# Altium schematic symbol library UA78M33CDCY.SchLib: 1 symbol
Pins are listed as number, name and electrical type; pins without a type are passive.

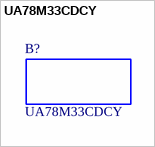
[diagram p0: symbol UA78M33CDCY]

## UA78M33CDCY
designator B?
UA78M33CDCY, Linear Voltage Regulator, 0.5A 3.3 V, 4-Pin SOT-223; Manufacturer_Name: Texas Instruments; Geometry.Height: 1.8mm; Manufacturer_Part_Number: UA78M33CDCY; RS Part Number: 9223520; RS Price/Stock: http://uk.rs-online.com/web/p/products/9223520; Datasheet Link: http://www.ti.com/lit/ds/symlink/ua78m05.pdf
footprint SOT230P700X180-4N